# EAGLE library part MMDT3904V-7 (library diodes-inc-e14)
DUAL NPN SMALL SIGNAL SURFACE MOUNT TRANSISTOR
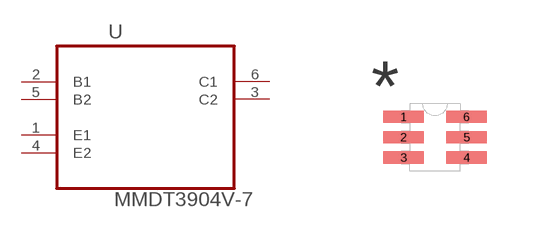
[diagram p39: symbol with the pads of SOT50P170X60-6N; footprint SOT50P170X60-6N]

Designator prefix U

## MMDT3904V-7 (MPN: MMDT3904V-7; OC_FARNELL: 1773645; OC_NEWARK: 51R6829; PACKAGE: SOT-563-6; SUPPLIER: Diodes Inc)  [SOT50P170X60-6N]
1  E1  pas
2  B1  pas
3  C2  pas
4  E2  pas
5  B2  pas
6  C1  pas

## Footprint SOT50P170X60-6N (pad centres in mm)
smd 1.016 x 0.305: 1 -0.787,0.508; 2 -0.787,0; 3 -0.787,-0.508; 4 0.787,-0.508; 5 0.787,0; 6 0.787,0.508